# Altium integrated library Linear Technology PMIC-Switching Reg LTC1174-LTC3901.IntLib: 2647 symbols (part 85 of 310)
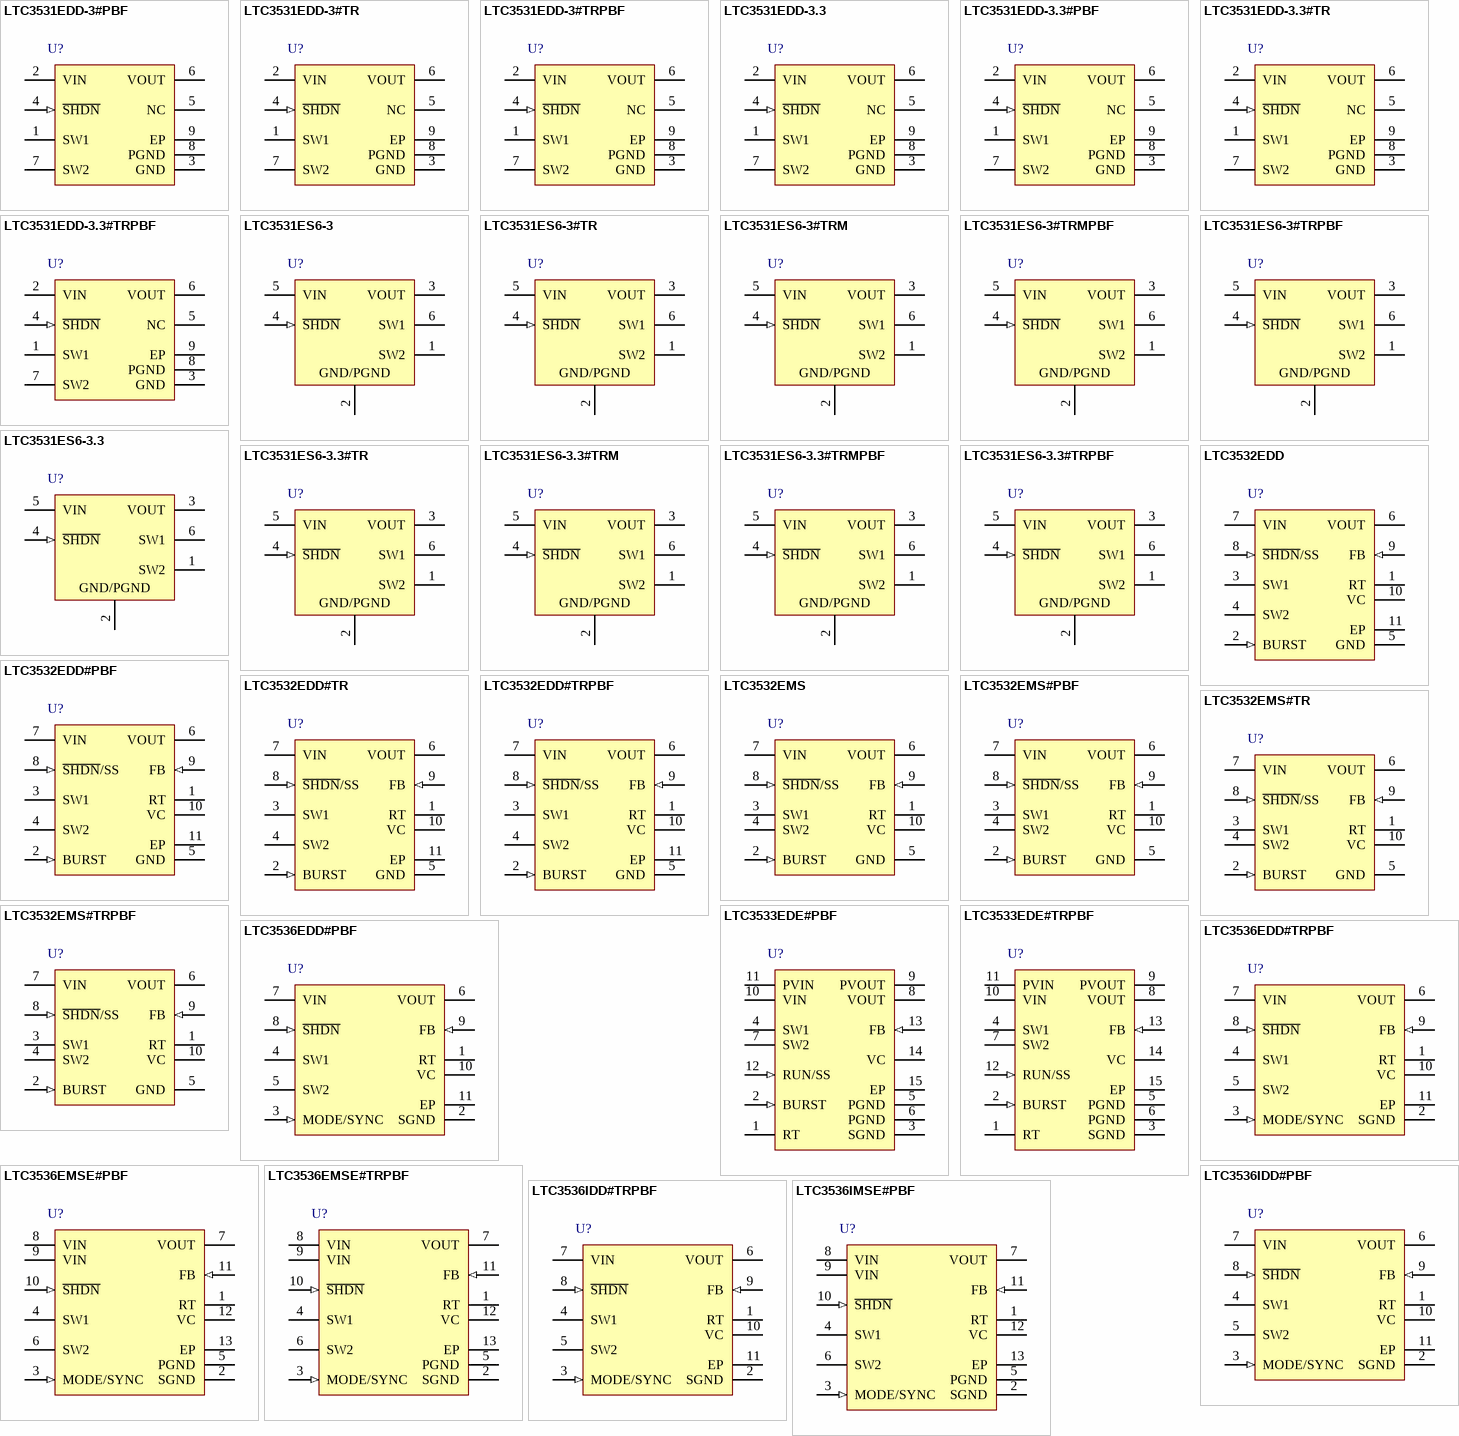
[diagram p263: symbols LTC3531EDD-3#PBF to LTC3536IMSE#PBF]

## LTC3532EMS
designator U?
Micropower Synchronous Buck-Boost DC/DC Converter, 10-pin SOP (MS-10), -40 to 85 degC; Manufacturer: Linear Technology; PartNumber: LTC3532EMS; Number of Outputs: 1; PackageReference: MS-10; PackageDescription: 10-Pin Plastic MSOP, Body 3 x 3 mm, Pitch 0.5 mm; Supplier 1: Newark; Supplier Part Number 1: 56M7956; RoHS: FALSE
footprint LT-MS-10_N (SOP, 10-Leads, Body 3.1x3.1mm, Pitch 0.5mm, IPC Medium Density)
footprint LT-MS-10_L (SOP, 10-Leads, Body 3.1x3.1mm, Pitch 0.5mm, IPC High Density)
footprint LT-MS-10_M (SOP, 10-Leads, Body 3.1x3.1mm, Pitch 0.5mm, IPC Low Density)
pins: 1 RT, 2 BURST (in) "Used to Set the Automatic Burst Mode Operation Threshold. Place a resistor and capacitor in parallel from this pin to ground. See the Applications Information section for component value selection. For manual control, ground (See Datasheet)", 3 SW1 "Switch Pin Where the Internal Switches A and B are Connected. Connect inductor from SW1 to SW2. An optional Schottky diode can be connected from SW1 to ground. Minimize trace length to minimize EMI.", 4 SW2 "Switch Pin Where the Internal Switches C and D are Connected. For applications with output voltages over 4.3V, a Schottky diode is required from SW2 to VOUT to ensure SW2 does not exhibit excess voltage.", 5 GND (power) "Signal and Power Ground for the IC.", 6 VOUT (power) "Output of the Synchronous Rectifier. A filter capacitor is placed from VOUT to GND.", 7 VIN (power) "Input Supply Pin. Supplies current to the inductor through SW1 and supplies internal VCC for the IC. A ceramic bypass capacitor as close to the VIN pin and GND (Pin 5) is required.", 8 ~{SHDN}/SS (in), 9 FB (in), 10 VC "Error Amp Output: A frequency compensation network is connected from this pin to the FB pin to compensate the loop. Refer to the Applications Information section for component value selection."

## LTC3532EMS#PBF
designator U?
Micropower Synchronous Buck-Boost DC/DC Converter, 10-pin SOP (MS-10), -40 to 85 degC, Pb-Free; Manufacturer: Linear Technology; PartNumber: LTC3532EMS#PBF; Number of Outputs: 1; PackageReference: MS-10; PackageDescription: 10-Pin Plastic MSOP, Body 3 x 3 mm, Pitch 0.5 mm; Supplier 1: Digi-Key; Supplier Part Number 1: LTC3532EMS#PBF-ND; RoHS: TRUE
footprint LT-MS-10_N (SOP, 10-Leads, Body 3.1x3.1mm, Pitch 0.5mm, IPC Medium Density)
footprint LT-MS-10_L (SOP, 10-Leads, Body 3.1x3.1mm, Pitch 0.5mm, IPC High Density)
footprint LT-MS-10_M (SOP, 10-Leads, Body 3.1x3.1mm, Pitch 0.5mm, IPC Low Density)
pins: 1 RT, 2 BURST (in) "Used to Set the Automatic Burst Mode Operation Threshold. Place a resistor and capacitor in parallel from this pin to ground. See the Applications Information section for component value selection. For manual control, ground (See Datasheet)", 3 SW1 "Switch Pin Where the Internal Switches A and B are Connected. Connect inductor from SW1 to SW2. An optional Schottky diode can be connected from SW1 to ground. Minimize trace length to minimize EMI.", 4 SW2 "Switch Pin Where the Internal Switches C and D are Connected. For applications with output voltages over 4.3V, a Schottky diode is required from SW2 to VOUT to ensure SW2 does not exhibit excess voltage.", 5 GND (power) "Signal and Power Ground for the IC.", 6 VOUT (power) "Output of the Synchronous Rectifier. A filter capacitor is placed from VOUT to GND.", 7 VIN (power) "Input Supply Pin. Supplies current to the inductor through SW1 and supplies internal VCC for the IC. A ceramic bypass capacitor as close to the VIN pin and GND (Pin 5) is required.", 8 ~{SHDN}/SS (in), 9 FB (in), 10 VC "Error Amp Output: A frequency compensation network is connected from this pin to the FB pin to compensate the loop. Refer to the Applications Information section for component value selection."

## LTC3532EMS#TR
designator U?
Micropower Synchronous Buck-Boost DC/DC Converter, 10-pin SOP (MS-10), -40 to 85 degC, Tape and Reel; Manufacturer: Linear Technology; PartNumber: LTC3532EMS#TR; Number of Outputs: 1; PackageReference: MS-10; PackageDescription: 10-Pin Plastic MSOP, Body 3 x 3 mm, Pitch 0.5 mm; RoHS: FALSE
footprint LT-MS-10_N (SOP, 10-Leads, Body 3.1x3.1mm, Pitch 0.5mm, IPC Medium Density)
footprint LT-MS-10_L (SOP, 10-Leads, Body 3.1x3.1mm, Pitch 0.5mm, IPC High Density)
footprint LT-MS-10_M (SOP, 10-Leads, Body 3.1x3.1mm, Pitch 0.5mm, IPC Low Density)
pins: 1 RT, 2 BURST (in) "Used to Set the Automatic Burst Mode Operation Threshold. Place a resistor and capacitor in parallel from this pin to ground. See the Applications Information section for component value selection. For manual control, ground (See Datasheet)", 3 SW1 "Switch Pin Where the Internal Switches A and B are Connected. Connect inductor from SW1 to SW2. An optional Schottky diode can be connected from SW1 to ground. Minimize trace length to minimize EMI.", 4 SW2 "Switch Pin Where the Internal Switches C and D are Connected. For applications with output voltages over 4.3V, a Schottky diode is required from SW2 to VOUT to ensure SW2 does not exhibit excess voltage.", 5 GND (power) "Signal and Power Ground for the IC.", 6 VOUT (power) "Output of the Synchronous Rectifier. A filter capacitor is placed from VOUT to GND.", 7 VIN (power) "Input Supply Pin. Supplies current to the inductor through SW1 and supplies internal VCC for the IC. A ceramic bypass capacitor as close to the VIN pin and GND (Pin 5) is required.", 8 ~{SHDN}/SS (in), 9 FB (in), 10 VC "Error Amp Output: A frequency compensation network is connected from this pin to the FB pin to compensate the loop. Refer to the Applications Information section for component value selection."